# Altium footprint library sot_23_5_p95_290x160x145_l45x40.PcbLib: 1 footprints
Each footprint in its own frame and in the unit in brackets; x right, y up, seen from the top. Pads: shape width x height; smd on the part's side, far side on the other; paste and mask are expansions set on the pad; w line width, h text height; cw(c..) or ccw(c..) is an arc to the next point about the centre after c.
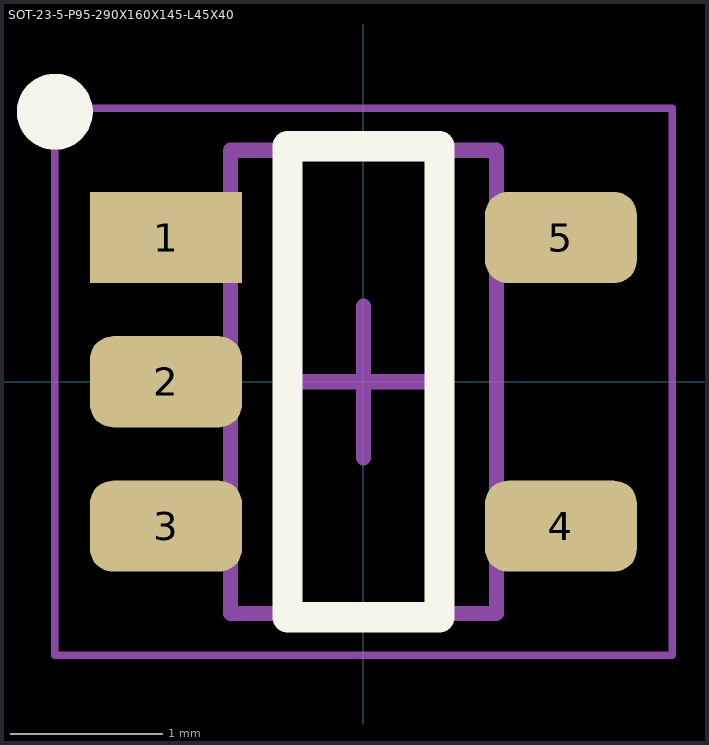
[diagram p0: the footprint, top view; thin cyan lines are the x and y axes]

## SOT-23-5-P95-290X160X145-L45X40 [mm] "SOT-23, 5-Leads, Body 2,90x1,60mm, Pitch 0,95mm, IPC Medium Density"
height 1.45
pads (5):
  rect 1x0.6 smd: 1(-1.3,0.95)
  rrect50% 1x0.6 smd: 2(-1.3,0) 3(-1.3,-0.95) 4(1.3,-0.95) 5(1.3,0.95)
Top Overlay:
  circle w0.25: c-2.032,1.778 r0.125
  lines w0.2: -0.5,-1.55 -0.5,1.55 0.5,1.55 0.5,-1.55 -0.5,-1.55
Top Comment:
  text ".Comment" at 0.762,2.032 h1.2
Top Designator:
  text ".Designator" at -0.254,2.032 h1.2
Top Component Outline:
  lines w0.1: -0.875,-1.525 0.875,-1.525 0.875,1.525 -0.875,1.525 -0.875,-1.525
Top Courtyard (Mech15):
  lines w0.05: -2.032,-1.8 2.032,-1.8 2.032,1.8 -2.032,1.8 -2.032,-1.8
  lines w0.1: -0.5,0 0.5,0 ; 0,-0.5 0,0.5
3D body "SOT-23-5.STEP": height 1.45, standoff 0, extent -1.4,-1.45 1.4,1.45